# Altium schematic symbol library MIC5233.Schlib: 1 symbol
Pins are listed as number, name and electrical type; pins without a type are passive.

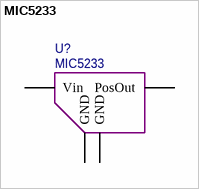
[diagram p0: symbol MIC5233]

## MIC5233
designator U?
pins: 1 Vin, 2 GND, 3 PosOut, 4 GND